# Altium footprint library ebf_mp157 s1 dev board_20210223_PCB封装_AD格式.PcbLib: 69 footprints (part 1 of 5)
Each footprint in its own frame and in the unit in brackets; x right, y up, seen from the top. Pads: shape width x height; smd on the part's side, far side on the other; paste and mask are expansions set on the pad; w line width, h text height; cw(c..) or ccw(c..) is an arc to the next point about the centre after c.
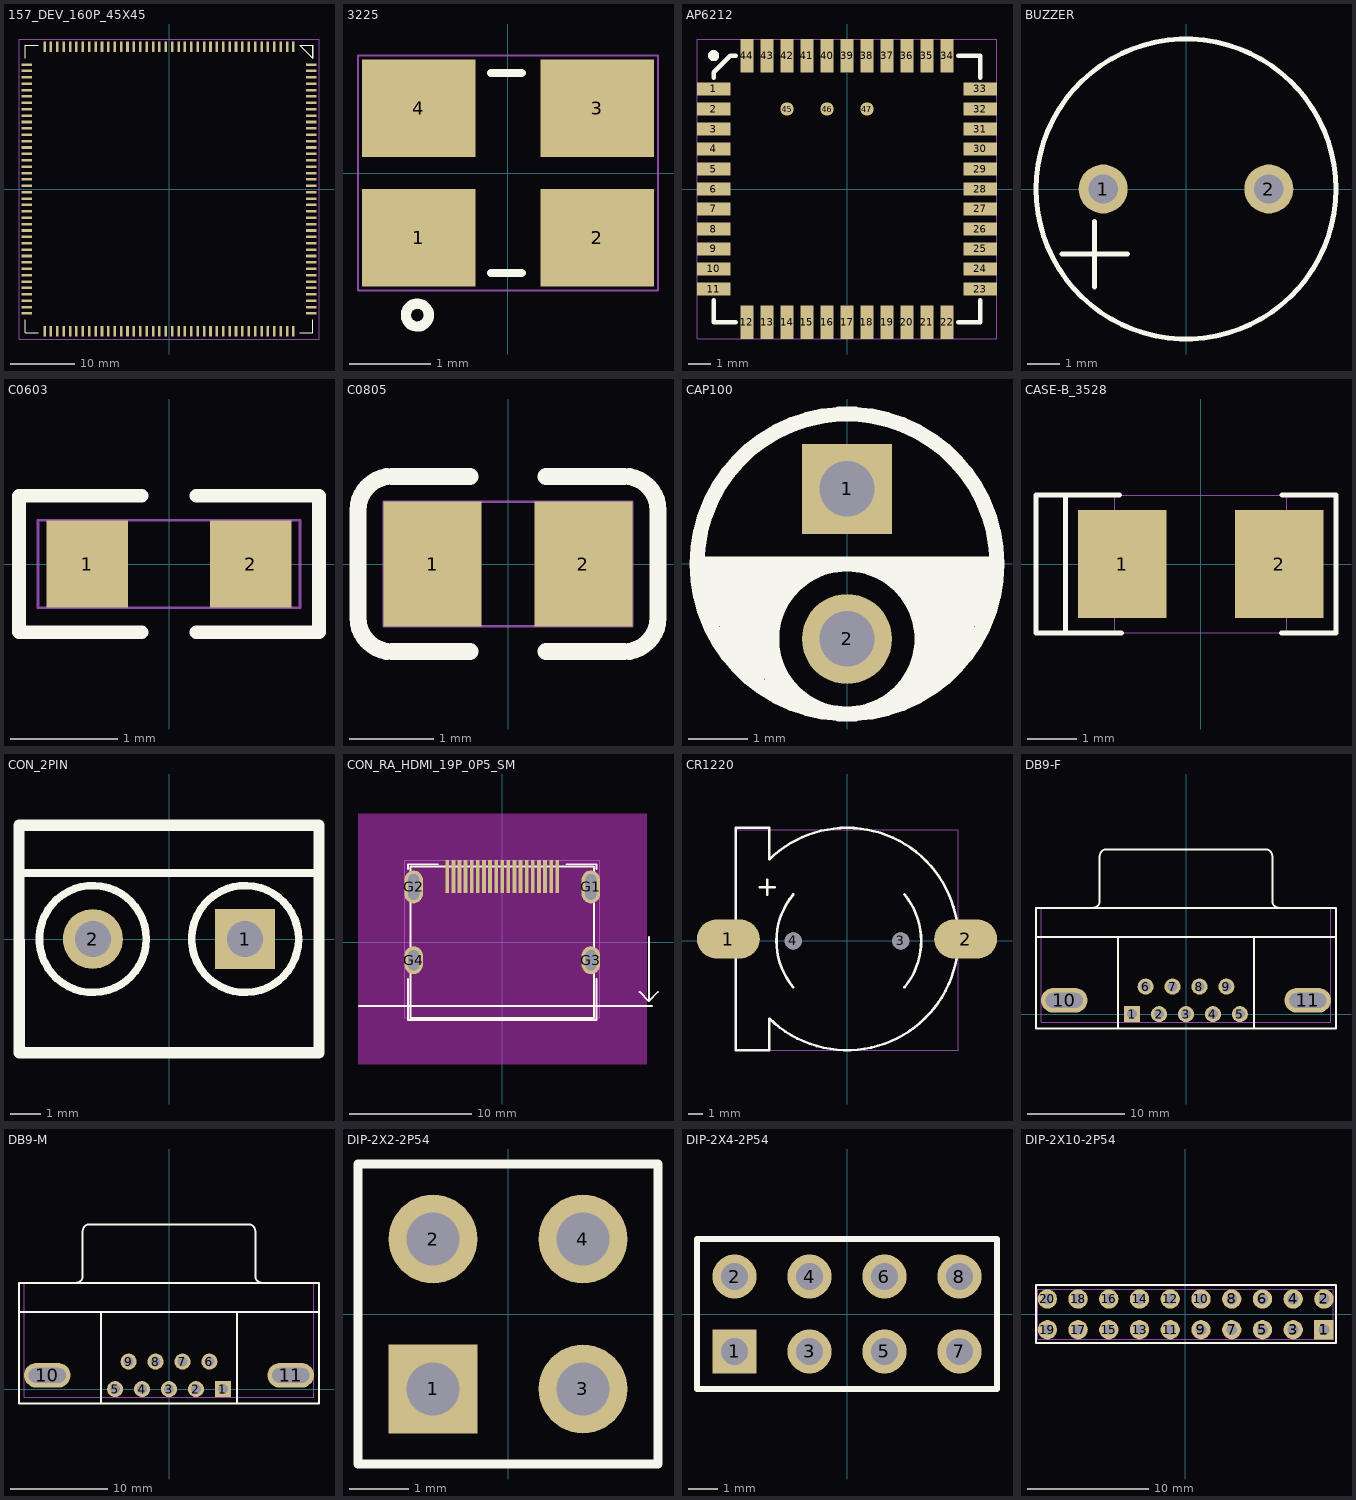
[diagram p0: the footprints below, top view; thin cyan lines are the x and y axes]

## 157_DEV_160P_45X45 [mm]
pads (160):
  rect 0.4x1.6 smd paste+0.05 mask+0.05: 1(19.5,22.3) 2(18.5,22.3) 3(17.5,22.3) 4(16.5,22.3) 5(15.5,22.3) 6(14.5,22.3) 7(13.5,22.3) 8(12.5,22.3) 9(11.5,22.3) 10(10.5,22.3) 11(9.5,22.3) 12(8.5,22.3) 13(7.5,22.3) 14(6.5,22.3) 15(5.5,22.3) 16(4.5,22.3) 17(3.5,22.3) 18(2.5,22.3) 19(1.5,22.3) 20(0.5,22.3) 21(-0.5,22.3) 22(-1.5,22.3) 23(-2.5,22.3) 24(-3.5,22.3) 25(-4.5,22.3) 26(-5.5,22.3) 27(-6.5,22.3) 28(-7.5,22.3) 29(-8.5,22.3) 30(-9.5,22.3) 31(-10.5,22.3) 32(-11.5,22.3) 33(-12.5,22.3) 34(-13.5,22.3) 35(-14.5,22.3) 36(-15.5,22.3) 37(-16.5,22.3) 38(-17.5,22.3) 39(-18.5,22.3) 40(-19.5,22.3) 81(-19.5,-22.3) 82(-18.5,-22.3) 83(-17.5,-22.3) 84(-16.5,-22.3) 85(-15.5,-22.3) 86(-14.5,-22.3) 87(-13.5,-22.3) 88(-12.5,-22.3) 89(-11.5,-22.3) 90(-10.5,-22.3) 91(-9.5,-22.3) 92(-8.5,-22.3) 93(-7.5,-22.3) 94(-6.5,-22.3) 95(-5.5,-22.3) 96(-4.5,-22.3) 97(-3.5,-22.3) 98(-2.5,-22.3) 99(-1.5,-22.3) 100(-0.5,-22.3) 101(0.5,-22.3) 102(1.5,-22.3) 103(2.5,-22.3) 104(3.5,-22.3) 105(4.5,-22.3) 106(5.5,-22.3) 107(6.5,-22.3) 108(7.5,-22.3) 109(8.5,-22.3) 110(9.5,-22.3) 111(10.5,-22.3) 112(11.5,-22.3) 113(12.5,-22.3) 114(13.5,-22.3) 115(14.5,-22.3) 116(15.5,-22.3) 117(16.5,-22.3) 118(17.5,-22.3) 119(18.5,-22.3) 120(19.5,-22.3)
  rect 1.6x0.4 smd paste+0.05 mask+0.05: 41(-22.3,19.5) 42(-22.3,18.5) 43(-22.3,17.5) 44(-22.3,16.5) 45(-22.3,15.5) 46(-22.3,14.5) 47(-22.3,13.5) 48(-22.3,12.5) 49(-22.3,11.5) 50(-22.3,10.5) 51(-22.3,9.5) 52(-22.3,8.5) 53(-22.3,7.5) 54(-22.3,6.5) 55(-22.3,5.5) 56(-22.3,4.5) 57(-22.3,3.5) 58(-22.3,2.5) 59(-22.3,1.5) 60(-22.3,0.5) 61(-22.3,-0.5) 62(-22.3,-1.5) 63(-22.3,-2.5) 64(-22.3,-3.5) 65(-22.3,-4.5) 66(-22.3,-5.5) 67(-22.3,-6.5) 68(-22.3,-7.5) 69(-22.3,-8.5) 70(-22.3,-9.5) 71(-22.3,-10.5) 72(-22.3,-11.5) 73(-22.3,-12.5) 74(-22.3,-13.5) 75(-22.3,-14.5) 76(-22.3,-15.5) 77(-22.3,-16.5) 78(-22.3,-17.5) 79(-22.3,-18.5) 80(-22.3,-19.5) 121(22.3,-19.5) 122(22.3,-18.5) 123(22.3,-17.5) 124(22.3,-16.5) 125(22.3,-15.5) 126(22.3,-14.5) 127(22.3,-13.5) 128(22.3,-12.5) 129(22.3,-11.5) 130(22.3,-10.5) 131(22.3,-9.5) 132(22.3,-8.5) 133(22.3,-7.5) 134(22.3,-6.5) 135(22.3,-5.5) 136(22.3,-4.5) 137(22.3,-3.5) 138(22.3,-2.5) 139(22.3,-1.5) 140(22.3,-0.5) 141(22.3,0.5) 142(22.3,1.5) 143(22.3,2.5) 144(22.3,3.5) 145(22.3,4.5) 146(22.3,5.5) 147(22.3,6.5) 148(22.3,7.5) 149(22.3,8.5) 150(22.3,9.5) 151(22.3,10.5) 152(22.3,11.5) 153(22.3,12.5) 154(22.3,13.5) 155(22.3,14.5) 156(22.3,15.5) 157(22.3,16.5) 158(22.3,17.5) 159(22.3,18.5) 160(22.3,19.5)
Top Overlay:
  lines w0.025: 20.495,22.499 22.501,20.495 22.5,22.5 20.495,22.499
  lines w0.15: -22.5,-22.5 -22.5,-20.5 -22.5,-22.5 ; -22.5,-22.5 -20.5,-22.5 -22.5,-22.5 ; -22.5,22.5 -22.5,20.5 -22.5,22.5 ; -22.5,22.5 -20.5,22.5 -22.5,22.5 ; 22.5,-22.5 20.5,-22.5 22.5,-22.5 ; 22.5,-22.5 22.5,-20.5 22.5,-22.5 ; 22.5,22.5 20.5,22.5 22.5,22.5 ; 22.5,22.5 22.5,20.5 22.5,22.5
Top Assembly:
  text "U26" at -1.557,-0.635 h1.27
Mechanical 20:
  lines w0.025: -23.5,-23.5 -23.5,23.5 23.5,23.5 23.5,-23.5 -23.5,-23.5

## 3225 [mil]
pads (4):
  rect 55.12x47.24 smd mask+1.97: 1(-43.3,-31.5) 2(43.31,-31.5) 3(43.31,31.49) 4(-43.3,31.49)
Top Overlay:
  circle w5: c-44,-69 r5.57
  lines w3.94: -8.3,-48.51 6.7,-48.51 ; -8.3,48.51 6.7,48.51
Top Assembly:
  text "Y5" at -38.92,-25 h50
Mechanical 20:
  lines w1: -72.83,-57.09 72.84,-57.09 72.84,57.08 -72.83,57.08 -72.83,-57.09

## AP6212 [mm]
pads (47):
  rect 1.5x0.6 smd mask+0.05: 1(-6,4.5) 2(-6,3.6) 3(-6,2.7) 4(-6,1.8) 5(-6,0.9) 6(-6,0) 7(-6,-0.9) 8(-6,-1.8) 9(-6,-2.7) 10(-6,-3.6) 11(-6,-4.5) 23(6,-4.5) 24(6,-3.6) 25(6,-2.7) 26(6,-1.8) 27(6,-0.9) 28(6,0) 29(6,0.9) 30(6,1.8) 31(6,2.7) 32(6,3.6) 33(6,4.5)
  rect 0.6x1.5 smd mask+0.05: 12(-4.5,-6) 13(-3.6,-6) 14(-2.7,-6) 15(-1.8,-6) 16(-0.9,-6) 17(0,-6) 18(0.9,-6) 19(1.8,-6) 20(2.7,-6) 21(3.6,-6) 22(4.5,-6) 34(4.5,6) 35(3.6,6) 36(2.7,6) 37(1.8,6) 38(0.9,6) 39(0,6) 40(-0.9,6) 41(-1.8,6) 42(-2.7,6) 43(-3.6,6) 44(-4.5,6)
  round 0.6 smd mask+0.05: 45(-2.7,3.6) 46(-0.9,3.6) 47(0.9,3.6)
Top Overlay:
  circle w0.25: c-6,6 r0.125
  lines w0.2: -6,-5 -6,-6 -5,-6 ; -6,5 -6,5.25 -5.25,6 -5,6 ; 5,-6 6,-6 6,-5 ; 5,6 6,6 6,5
Top Assembly:
  text "U5" at 1.022,0.635 h1.27
Mechanical 20:
  lines w0.025: -6.75,-6.75 6.75,-6.75 6.75,6.75 -6.75,6.75 -6.75,-6.75

## BUZZER [mm]
pads (2):
  round 1.5 hole 0.9 mask+0.051: 1(-2.54,0) 2(2.54,0)
Top Overlay:
  circle w0.152: c0,0 r4.6
  lines w0.152: -3.8,-2 -1.8,-2 ; -2.8,-3 -2.8,-1
Top Assembly:
  text "PZ1" at 1.282,0.635 h1.27
Mechanical 20:
  circle w0.025: c0,0 r4.6

## C0603 [mil]
pads (2):
  rect 30x32 smd mask+2.5: 1(-30,0) 2(30,0)
Top Overlay:
  lines w5: -10,-25 -55,-25 -55,25 -10,25 ; 10,-25 55,-25 55,25 10,25
Top Assembly:
  text "C99" at -62.61,-25 h50
Mechanical 20:
  lines w1: -48,-16 -48,16 48,16 48,-16 -48,-16

## C0805 [mm]
pads (2):
  rect 1.16x1.47 smd mask+0.05: 1(-0.89,0) 2(0.89,0)
Top Overlay:
  lines w0.2: -0.45,-1.035 -1.37,-1.035 cw(c-1.37,-0.635) -1.77,-0.635 -1.77,0.635 cw(c-1.37,0.635) -1.37,1.035 -0.45,1.035 ; 0.45,-1.035 1.37,-1.035 ccw(c1.37,-0.635) 1.77,-0.635 1.77,0.635 ccw(c1.37,0.635) 1.37,1.035 0.45,1.035
Top Assembly:
  text "C311" at -1.814,-0.635 h1.27
Mechanical 20:
  lines w0.025: -1.47,-0.735 1.47,-0.735 1.47,0.735 -1.47,0.735 -1.47,-0.735

## CAP100 [mil]
pads (2):
  rect 60x60 hole 37 mask+2: 1(0,50)
  round 60 hole 37 mask+2: 2(0,-50)
Top Overlay:
  circle w10: c0,0 r100
  lines w10: -100,0 100,0 ; -90,-40 -90,0 ; -80,-60 -80,-5 ; -70,-70 -70,-5 ; -60,-75 -60,-5 ; -50,-85 -50,0 ; -45,-85 -45,-80 ; -40,-20 -40,0 ; -30,-10 -30,0 ; 35,-10 35,-5 ; 40,-20 40,-5 ; 45,-85 45,-80 ; 50,-85 50,-5 ; 60,-80 60,-5 ; 70,-70 70,-5 ; 80,-60 80,-5 ; 90,-40 90,-5 ; 0,-100 cw(c-0.26,-50) 0,0 cw(c0,-50) 0,-100
Top Assembly:
  text "C107" at 82.13,25 h50
Mechanical 20:
  circle w1: c0,0 r100

## CASE-B_3528 [mm]
pads (2):
  rect 1.8x2.2 smd mask+0.05: 1(-1.6,0) 2(1.6,0)
Top Overlay:
  lines w0.1: -1.649,1.4 -2.75,1.4 ; -1.61,-1.4 -2.75,-1.4 ; 1.641,-1.4 2.75,-1.4 2.75,1.4 1.653,1.4 ; -2.75,-1.4 -3.35,-1.4 -3.35,1.4 -2.75,1.4 ; -2.75,-1.4 -2.75,1.4
Top Assembly:
  text "C155" at -2.086,-0.635 h1.27
Mechanical 20:
  lines w0.025: -1.75,-1.4 1.75,-1.4 1.75,1.4 -1.75,1.4 -1.75,-1.4

## CON_2PIN [mm]
pads (2):
  rect 2x2 hole 1.2 mask+0.051: 1(2.54,0)
  round 2 hole 1.2 mask+0.051: 2(-2.54,0)
Top Overlay:
  circle w0.254: c2.54,0 r1.783
  circle w0.254: c-2.54,0 r1.783
  lines w0.254: -5.004,2.2 5.004,2.2
  lines w0.381: -5.004,3.8 5.004,3.8 5.004,-3.8 -5,-3.8 -5.004,3.8
Top Assembly:
  text "J7" at -0.889,-0.635 h1.27
Mechanical 20:
  lines w0.025: -5.004,-3.8 5.004,-3.8 5.004,3.8 -5.004,3.8 -5.004,-3.8

## CON_RA_HDMI_19P_0P5_SM [mil]
pads (23):
  rect 12x106 smd mask+2: 1(177.17,211.61) 2(157.48,211.61) 3(137.8,211.61) 4(118.11,211.61) 5(98.43,211.61) 6(78.74,211.61) 7(59.06,211.61) 8(39.37,211.61) 9(19.69,211.61) 10(0,211.61) 11(-19.69,211.61) 12(-39.37,211.61) 13(-59.06,211.61) 14(-78.74,211.61) 15(-98.43,211.61) 16(-118.11,211.61) 17(-137.8,211.61) 18(-157.48,211.61) 19(-177.17,211.61)
  oval 59x106 hole 35 slot 83 at 90 deg mask+2: G1(285.43,178.15) G2(-285.43,178.15)
  oval 59x90 hole 35 slot 66 at 90 deg mask+2: G3(285.43,-58.07) G4(-285.43,-58.07)
Top Layer keep-out:
  region: -464.93,-394.09 -464.93,414.61 464.93,414.61 464.93,-394.09
Top Overlay:
  lines w6: -462.6,-205.71 285.43,-205.71 482.28,-205.71 ; -303.26,-118.11 -303.26,-251.09 303.26,-251.09 303.26,-118.11 ; -303.26,236.22 -303.26,251.09 -206.69,251.09 ; 206.69,251.09 303.26,251.09 303.26,236.22 ; 442.91,-160.43 472.44,-189.96 ; 472.44,16.73 472.44,-189.96 ; 501.97,-160.43 472.44,-189.96 ; -296.26,-244.09 -296.26,244.09 296.26,244.09 296.26,-244.09 -296.26,-244.09
Top Assembly:
  text "J31" at -46.54,-25 h50
Mechanical 20:
  lines w1: -314.93,-244.09 -314.93,264.61 314.93,264.61 314.93,-244.09 -314.93,-244.09

## CR1220 [mil]
pads (4):
  oval 169.29x106.3 smd mask+1.97: 1(-320,5) 2(320,5)
  round 46 hole 46 unplated mask+2: 3(145,0) 4(-145,0)
Top Overlay:
  lines w7: -235,145 -195,145 ; -215,125 -215,165 ; -209.62,-209.61 -210,-295 -300,-295 -300,5 -300,305 -210,305 -209.62,219.61 ; -209.52,-209.7 ccw(c0,5) 298.19,-27.92 ; -209.51,219.71 cw(c0,5.02) 0,305 cw(c0,5) 298.19,37.92 ; -145.23,-124.72 cw(c5,0) -145.01,124.99 ; 155.01,-124.99 ccw(c5,0) 155.01,124.99
Top Assembly:
  text "CN3" at 65.11,25 h50
Mechanical 20:
  lines w1: -300,-295 -300,300 300,300 300,-295 -300,-295

## DB9-F [mil]
pads (11):
  rect 65x65 hole 40 mask+2: 1(-218.11,0)
  round 65 hole 40 mask+2: 2(-109.06,0) 3(0,0) 4(109.06,0) 5(218.11,0) 6(-163.58,111.81) 7(-54.53,111.81) 8(54.53,111.81) 9(163.58,111.81)
  oval 188x100 hole 60 slot 150 at 0 deg mask+2: 10(-491.93,55.91) 11(491.93,55.9)
Top Overlay:
  lines w7.87: -606.3,311.81 606.3,311.81 ; -376.38,430.12 ccw(c-376.38,457.48) -349.02,457.48 -348.82,638.78 cw(c-321.46,638.78) -321.46,666.14 321.46,666.14 cw(c321.46,638.78) 348.82,638.78 349.02,457.48 ccw(c376.38,457.48) 376.38,430.12 ; -275.59,-58.27 -275.59,311.81 ; 275.59,-58.27 275.59,311.81 ; -606.3,-58.27 606.3,-58.27 606.3,429.92 -606.3,429.92 -606.3,-58.27
Top Assembly:
  text "CON1" at -79.27,-25 h50
Mechanical 20:
  lines w1: -585.63,-32.5 585.63,-32.5 585.63,429.92 -585.63,429.92 -585.63,-32.5

## DB9-M [mil]
pads (11):
  rect 65x65 hole 40 mask+2: 1(218.11,0)
  round 65 hole 40 mask+2: 2(109.06,0) 3(0,0) 4(-109.06,0) 5(-218.11,0) 6(163.58,111.81) 7(54.53,111.81) 8(-54.53,111.81) 9(-163.58,111.81)
  oval 188x100 hole 60 slot 150 at 0 deg mask+2: 10(-491.93,55.91) 11(491.93,55.9)
Top Overlay:
  lines w7.87: -606.3,311.81 606.3,311.81 ; -376.38,430.12 ccw(c-376.38,457.48) -349.02,457.48 -348.82,638.78 cw(c-321.46,638.78) -321.46,666.14 321.46,666.14 cw(c321.46,638.78) 348.82,638.78 349.02,457.48 ccw(c376.38,457.48) 376.38,430.12 ; -275.59,-58.27 -275.59,311.81 ; 275.59,-58.27 275.59,311.81 ; -606.3,-58.27 606.3,-58.27 606.3,429.92 -606.3,429.92 -606.3,-58.27
Top Assembly:
  text "CON2" at -89.98,-25 h50
Mechanical 20:
  lines w1: -585.63,-32.5 585.63,-32.5 585.63,429.92 -585.63,429.92 -585.63,-32.5

## DIP-2X2-2P54 [mm]
pads (4):
  rect 1.5x1.5 hole 0.9 mask+0.051: 1(-1.27,-1.27)
  round 1.5 hole 0.9 mask+0.051: 2(-1.27,1.27) 3(1.27,-1.27) 4(1.27,1.27)
Top Overlay:
  lines w0.15: -2.54,-2.54 -2.54,2.54 2.54,2.54 2.54,-2.54 -2.54,-2.54
Top Assembly:
  text "J15" at 1.354,0.635 h1.27
Mechanical 20:
  lines w0.025: -2.54,-2.54 2.54,-2.54 2.54,2.54 -2.54,2.54 -2.54,-2.54

## DIP-2X4-2P54 [mm]
pads (8):
  rect 1.5x1.5 hole 0.9 mask+0.051: 1(-3.81,-1.27)
  round 1.5 hole 0.9 mask+0.051: 2(-3.81,1.27) 3(-1.27,-1.27) 4(-1.27,1.27) 5(1.27,-1.27) 6(1.27,1.27) 7(3.81,-1.27) 8(3.81,1.27)
Top Overlay:
  lines w0.22: -4.81,2.54 -5.08,2.54 ; -5.08,2.54 -5.08,-2.54 5.08,-2.54 5.08,2.54 -5.08,2.54
Top Assembly:
  text "J11" at 1.082,0.635 h1.27
Mechanical 20:
  lines w0.025: -5.08,-2.54 -5.08,2.54 5.08,2.54 5.08,-2.54 -5.08,-2.54

## DIP-2X10-2P54 [mm]
pads (20):
  rect 1.6x1.6 hole 0.9 mask+0.051: 1(11.47,-1.27)
  round 1.6 hole 0.9 mask+0.051: 2(11.47,1.27) 3(8.93,-1.27) 4(8.93,1.27) 5(6.39,-1.27) 6(6.39,1.27) 7(3.85,-1.27) 8(3.85,1.27) 9(1.31,-1.27) 10(1.31,1.27) 11(-1.23,-1.27) 12(-1.23,1.27) 13(-3.77,-1.27) 14(-3.77,1.27) 15(-6.31,-1.27) 16(-6.31,1.27) 17(-8.85,-1.27) 18(-8.85,1.27) 19(-11.39,-1.27) 20(-11.39,1.27)
Top Overlay:
  lines w0.15: -12.33,-2.37 12.47,-2.37 12.47,2.43 -12.33,2.43 -12.33,-2.37
Top Assembly:
  text "J18" at 1.354,0.635 h1.27
Mechanical 20:
  lines w0.025: -12.19,-2.07 -12.19,2.07 12.23,2.07 12.23,-2.07 -12.19,-2.07